# Altium schematic symbol library Connectors.SchLib: 27 symbols
Pins are listed as number, name and electrical type; pins without a type are passive.

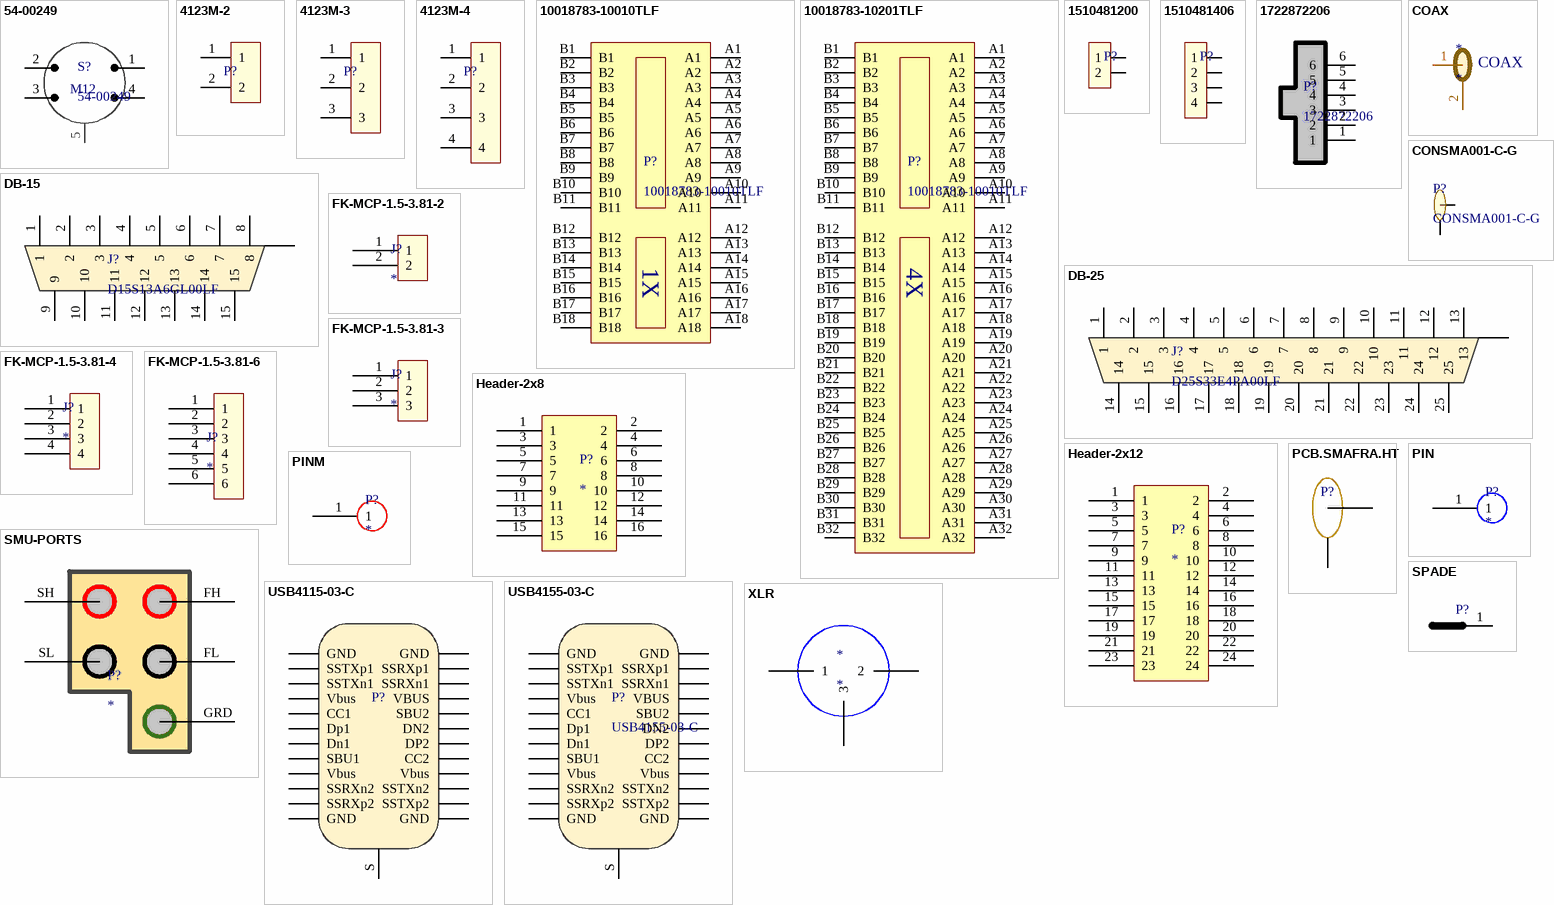
[diagram p0: symbols 54-00249 to XLR]

## 54-00249
designator S?
Supplier 1: Digi-Key; Supplier Part Number 1: 839-54-00249-ND
footprint 54-00249
pins: 1, 2, 3, 4, 5
text: M12

## 4123M-2
designator P?
footprint 4123M-2
pins: 1, 2

## 4123M-3
designator P?
footprint 4123M-3
pins: 1, 2, 3

## 4123M-4
designator P?
footprint 4123M-4
pins: 1, 2, 3, 4

## 10018783-10010TLF
designator P?
PCIe 1x; Supplier 1: Digi-Key; Supplier Part Number 1: 609-1964-ND
footprint 10018783-10010TLF
pins: A1, A2, A3, A4, A5, A6, A7, A8, A9, A10, A11, A12, A13, A14, A15, A16, A17, A18, B1, B2, B3, B4, B5, B6, B7, B8, B9, B10, B11, B12, B13, B14, B15, B16, B17, B18
text: 1X

## 10018783-10201TLF
designator P?, comment 10018783-10010TLF
PCIe 4x; Supplier 1: Digi-Key; Supplier Part Number 1: 609-1964-ND
footprint 10018783-10201TLF
footprint PCIe4X
pins: A1, A2, A3, A4, A5, A6, A7, A8, A9, A10, A11, A12, A13, A14, A15, A16, A17, A18, A19, A20, A21, A22, A23, A24, A25, A26, A27, A28, A29, A30, A31, A32, B1, B2, B3, B4, B5, B6, B7, B8, B9, B10, B11, B12, B13, B14, B15, B16, B17, B18, B19, B20, B21, B22, B23, B24, B25, B26, B27, B28, B29, B30, B31, B32
text: 4X

## 1510481200
designator P?  (value not drawn)
footprint 1510481200
pins: 1, 2

## 1510481406
designator P?  (value not drawn)
footprint 1510481406
pins: 1, 2, 3, 4

## 1722872206
designator P?
footprint 1722872206
pins: 1, 2, 3, 4, 5, 6

## COAX
designator *
footprint COAX (Footprint not found)
pins: 1, 2

## CONSMA001-C-G
designator P?
Supplier 1: Digi-Key; Supplier 2: Mouser; Supplier Part Number 1: 343-CONSMA001-C-G-ND; Supplier Part Number 2: 712-CONSMA001-C-G
footprint CONSMA001-C-G
pins: 1, 2

## DB-15
designator J?, comment D15S13A6GL00LF
Supplier 1: Mouser; Supplier Part Number 1: 649-D15S13A4GL00LF
footprint D15S13A6GL00LF
pins: 1, 2, 3, 4, 5, 6, 7, 8, 9, 10, 11, 12, 13, 14, 15, S

## DB-25
designator J?, comment D25S33E4PA00LF
Supplier 1: Digi-Key; Supplier Part Number 1: 609-5879-ND
footprint D25S33E4PA00LF (Footprint not found)
pins: 1, 2, 3, 4, 5, 6, 7, 8, 9, 10, 11, 12, 13, 14, 15, 16, 17, 18, 19, 20, 21, 22, 23, 24, 25, S

## FK-MCP-1.5-3.81-2
designator J?
footprint FK-MCP-1.5-3.81-2 (Footprint not found)
pins: 1, 2

## FK-MCP-1.5-3.81-3
designator J?
footprint FK-MCP-1.5-3.81-3 (Footprint not found)
pins: 1, 2, 3

## FK-MCP-1.5-3.81-4
designator J?
footprint FK-MCP-1.5-3.81-4 (Footprint not found)
pins: 1, 2, 3, 4

## FK-MCP-1.5-3.81-6
designator J?
footprint FK-MCP-1.5-3.81-6 (Footprint not found)
pins: 1, 2, 3, 4, 5, 6

## Header-2x8
designator P?
footprint STIGMATOR
pins: 1, 2, 3, 4, 5, 6, 7, 8, 9, 10, 11, 12, 13, 14, 15, 16

## Header-2x12
designator P?
footprint scanning
pins: 1, 2, 3, 4, 5, 6, 7, 8, 9, 10, 11, 12, 13, 14, 15, 16, 17, 18, 19, 20, 21, 22, 23, 24

## PCB.SMAFRA.HT
designator P?  (value not drawn)
Supplier 1: Digi-Key; Supplier 2: Mouser; Supplier Part Number 2: 960-PCB.SMAFRA.HT; Supplier Part Number 1: 931-1361-ND
footprint PCB.SMAFRA.HT
pins: 1, S

## PIN
designator P?
footprint PIN (Footprint not found)
pins: 1

## PINM
designator P?
footprint PINM (Footprint not found)
pins: 1

## SMU-PORTS
designator P?
footprint SMU-PORTS (Footprint not found)
pins: FH, FL, GRD, SH, SL

## SPADE
designator P?
footprint SPADE (Footprint not found)
pins: 1

## USB4115-03-C
designator P?  (value not drawn)
USB-C RECEPTACLE; ComponentLink1Description: Datasheet; ComponentLink1URL: https://gct.co/files/drawings/usb4115.pdf; Supplier 1: Digi-Key; Supplier Part Number 1: 2073-USB4115-03-CCT-ND
footprint USB4115
pins: A1 GND, A2 SSTXp1, A3 SSTXn1, A4 Vbus, A5 CC1, A6 Dp1, A7 Dn1, A8 SBU1, A9 Vbus, A10 SSRXn2, A11 SSRXp2, A12 GND, B1 GND, B2 SSTXp2, B3 SSTXn2, B4 Vbus, B5 CC2, B6 DP2, B7 DN2, B8 SBU2, B9 VBUS, B10 SSRXn1, B11 SSRXp1, B12 GND, S

## USB4155-03-C
designator P?
USB-C PLUG; Supplier 1: Digi-Key; Supplier Part Number 1: 2073-USB4155-03-CCT-ND; ComponentLink1Description: Datasheet; ComponentLink1URL: https://gct.co/files/drawings/usb4155.pdf?v=37dcb236-adf9-4ab4-af97-574bfec6e895
footprint USB4155
pins: A1 GND, A2 SSTXp1, A3 SSTXn1, A4 Vbus, A5 CC1, A6 Dp1, A7 Dn1, A8 SBU1, A9 Vbus, A10 SSRXn2, A11 SSRXp2, A12 GND, B1 GND, B2 SSTXp2, B3 SSTXn2, B4 Vbus, B5 CC2, B6 DP2, B7 DN2, B8 SBU2, B9 VBUS, B10 SSRXn1, B11 SSRXp1, B12 GND, S

## XLR
designator *
footprint XLR (Footprint not found)
pins: 1, 2, 3